# Altium footprint library TE.PcbLib: 11 footprints
Each footprint in its own frame and in the unit in brackets; x right, y up, seen from the top. Pads: shape width x height; smd on the part's side, far side on the other; paste and mask are expansions set on the pad; w line width, h text height; cw(c..) or ccw(c..) is an arc to the next point about the centre after c.
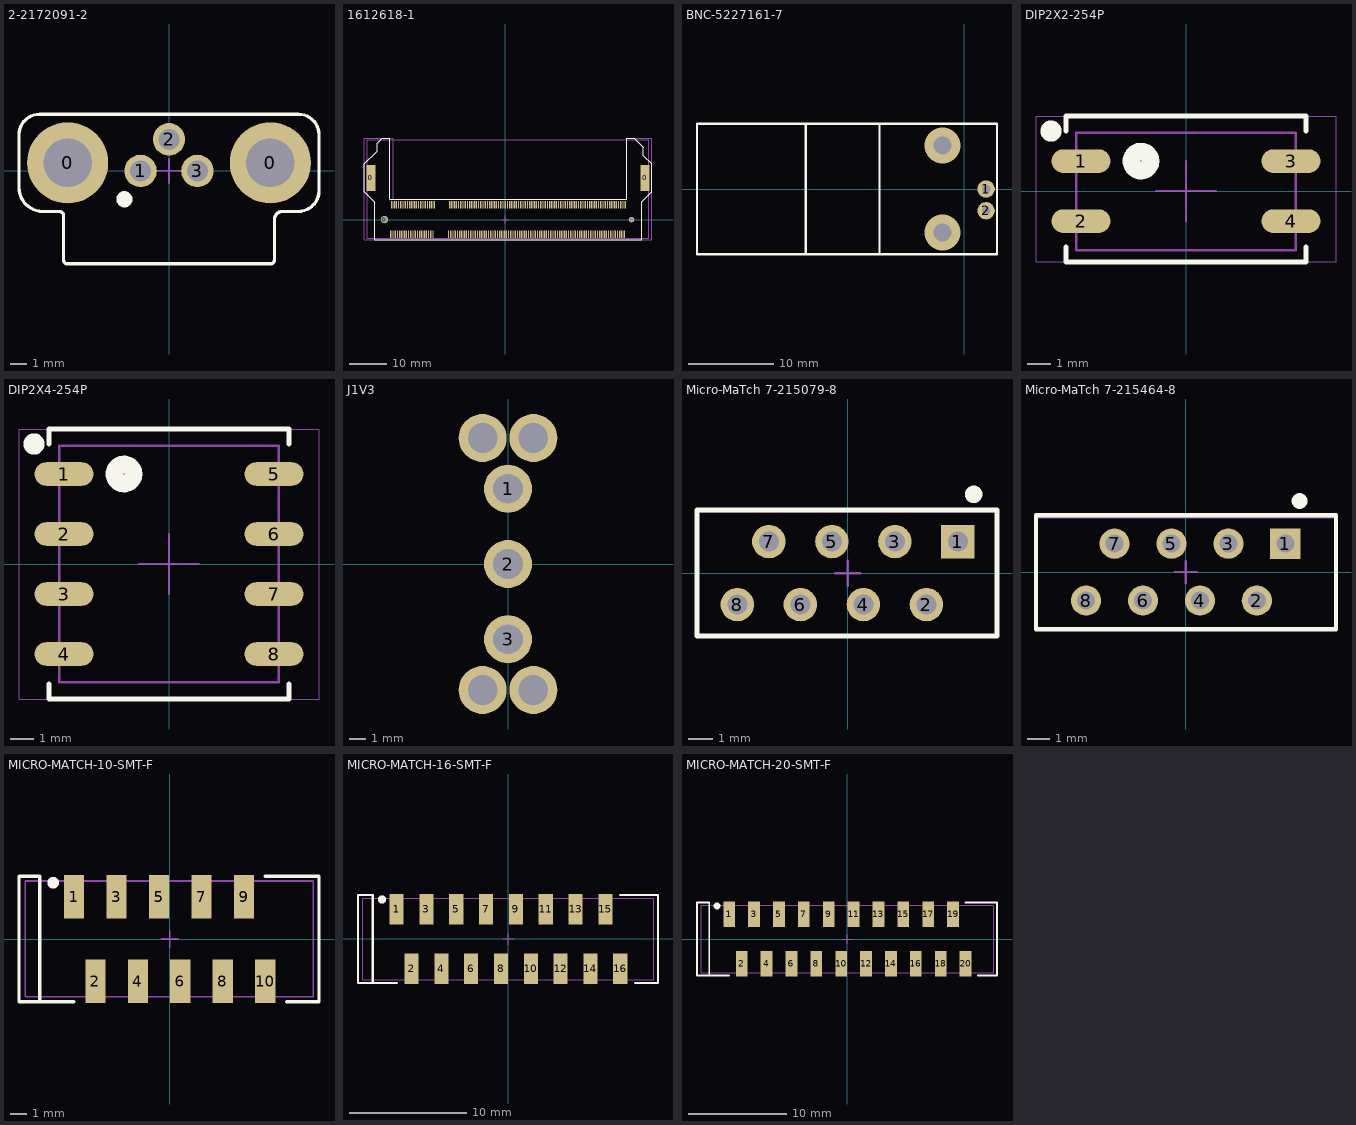
[diagram p0: the footprints below, top view; thin cyan lines are the x and y axes]

## 2-2172091-2 [mm] "M8.FMLE.PNLREAR.3POS.PCBSTAND.RA.SHLD"
pads (5):
  round 5 hole 3: 0(-6.25,0.5) 0(6.25,0.5)
  round 2 hole 1.3: 1(-1.75,0) 2(0,1.95) 3(1.75,0)
Top Overlay:
  circle w0.5: c-2.75,-1.75 r0.25
  lines w0.2: -9.25,-1.02 ccw(c-7.77,-1.02) -7.77,-2.5 -6.75,-2.5 cw(c-6.75,-2.75) -6.5,-2.75 -6.5,-5.5 ccw(c-6.27,-5.5) -6.27,-5.73 6.27,-5.73 ccw(c6.27,-5.5) 6.5,-5.5 6.5,-3 cw(c7,-3) 7,-2.5 7.98,-2.5 ccw(c7.98,-1.23) 9.25,-1.23 9.25,2.23 ccw(c7.98,2.23) 7.98,3.5 0,3.5 -7.98,3.5 ccw(c-7.98,2.23) -9.25,2.23 -9.25,-1.02
Mechanical 15:
  lines w0.1: -0.75,0 0.75,0 ; 0,-0.75 0,0.75
3D body "c-2-2172091-2-a-3d.stp": height 12.7, standoff -2.85, extent -6.377,-17.65 6.377,2.5

## 1612618-1 [mm] "DDR SODIMM SOCKET 200POS"
pads (204):
  rect 2.5x7 smd: 0(-36.25,11.25) 0(37.75,11.25)
  round 2 hole 1.6: 0(-32.6,0)
  round 1.5 hole 1.1: 0(34.1,0)
  rect 0.35x2 smd: 1(-30.9,-4) 2(-30.6,4) 3(-30.3,-4) 4(-30,4) 5(-29.7,-4) 6(-29.4,4) 7(-29.1,-4) 8(-28.8,4) 9(-28.5,-4) 10(-28.2,4) 11(-27.9,-4) 12(-27.6,4) 13(-27.3,-4) 14(-27,4) 15(-26.7,-4) 16(-26.4,4) 17(-26.1,-4) 18(-25.8,4) 19(-25.5,-4) 20(-25.2,4) 21(-24.9,-4) 22(-24.6,4) 23(-24.3,-4) 24(-24,4) 25(-23.7,-4) 26(-23.4,4) 27(-23.1,-4) 28(-22.8,4) 29(-22.5,-4) 30(-22.2,4) 31(-21.9,-4) 32(-21.6,4) 33(-21.3,-4) 34(-21,4) 35(-20.7,-4) 36(-20.4,4) 37(-20.1,-4) 38(-19.8,4) 39(-19.5,-4) 40(-19.2,4) 41(-15.3,-4) 42(-15,4) 43(-14.7,-4) 44(-14.4,4) 45(-14.1,-4) 46(-13.8,4) 47(-13.5,-4) 48(-13.2,4) 49(-12.9,-4) 50(-12.6,4) 51(-12.3,-4) 52(-12,4) 53(-11.7,-4) 54(-11.4,4) 55(-11.1,-4) 56(-10.8,4) 57(-10.5,-4) 58(-10.2,4) 59(-9.9,-4) 60(-9.6,4) 61(-9.3,-4) 62(-9,4) 63(-8.7,-4) 64(-8.4,4) 65(-8.1,-4) 66(-7.8,4) 67(-7.5,-4) 68(-7.2,4) 69(-6.9,-4) 70(-6.6,4) 71(-6.3,-4) 72(-6,4) 73(-5.7,-4) 74(-5.4,4) 75(-5.1,-4) 76(-4.8,4) 77(-4.5,-4) 78(-4.2,4) 79(-3.9,-4) 80(-3.6,4) 81(-3.3,-4) 82(-3,4) 83(-2.7,-4) 84(-2.4,4) 85(-2.1,-4) 86(-1.8,4) 87(-1.5,-4) 88(-1.2,4) 89(-0.9,-4) 90(-0.6,4) 91(-0.3,-4) 92(0,4) 93(0.3,-4) 94(0.6,4) 95(0.9,-4) 96(1.2,4) 97(1.5,-4) 98(1.8,4) 99(2.1,-4) 100(2.4,4) 101(2.7,-4) 102(3,4) 103(3.3,-4) 104(3.6,4) 105(3.9,-4) 106(4.2,4) 107(4.5,-4) 108(4.8,4) 109(5.1,-4) 110(5.4,4) 111(5.7,-4) 112(6,4) 113(6.3,-4) 114(6.6,4) 115(6.9,-4) 116(7.2,4) 117(7.5,-4) 118(7.8,4) 119(8.1,-4) 120(8.4,4) 121(8.7,-4) 122(9,4) 123(9.3,-4) 124(9.6,4) 125(9.9,-4) 126(10.2,4) 127(10.5,-4) 128(10.8,4) 129(11.1,-4) 130(11.4,4) 131(11.7,-4) 132(12,4) 133(12.3,-4) 134(12.6,4) 135(12.9,-4) 136(13.2,4) 137(13.5,-4) 138(13.8,4) 139(14.1,-4) 140(14.4,4) 141(14.7,-4) 142(15,4) 143(15.3,-4) 144(15.6,4) 145(15.9,-4) 146(16.2,4) 147(16.5,-4) 148(16.8,4) 149(17.1,-4) 150(17.4,4) 151(17.7,-4) 152(18,4) 153(18.3,-4) 154(18.6,4) 155(18.9,-4) 156(19.2,4) 157(19.5,-4) 158(19.8,4) 159(20.1,-4) 160(20.4,4) 161(20.7,-4) 162(21,4) 163(21.3,-4) 164(21.6,4) 165(21.9,-4) 166(22.2,4) 167(22.5,-4) 168(22.8,4) 169(23.1,-4) 170(23.4,4) 171(23.7,-4) 172(24,4) 173(24.3,-4) 174(24.6,4) 175(24.9,-4) 176(25.2,4) 177(25.5,-4) 178(25.8,4) 179(26.1,-4) 180(26.4,4) 181(26.7,-4) 182(27,4) 183(27.3,-4) 184(27.6,4) 185(27.9,-4) 186(28.2,4) 187(28.5,-4) 188(28.8,4) 189(29.1,-4) 190(29.4,4) 191(29.7,-4) 192(30,4) 193(30.3,-4) 194(30.6,4) 195(30.9,-4) 196(31.2,4) 197(31.5,-4) 198(31.8,4) 199(32.1,-4) 200(32.4,4)
Top Overlay:
  lines w0.2: -38,7.5 -38,15 -34.575,18.425 -34.575,20.625 -33.2,22 -31.2,22 -31.2,5.5 32.8,5.5 32.8,22 34.8,22 37.3,19.5 37.3,17.2 39.5,15 39.5,12.325 39.5,7.5 36.8,4.8 36.8,-5.5 -35.2,-5.5 -35.2,4.7 -38,7.5
Mechanical 13:
  lines w0.1: -37.2,-5 -37.2,21.556 38.7,21.556 38.7,-5 -37.2,-5
Mechanical 15:
  lines w0.05: -38,-5.5 -38,22 -30.2,22 -30.2,5.5 32.8,5.5 32.8,22 39.5,22 39.5,-5.5 -38,-5.5
  lines w0.1: -1,0 1,0 ; 0,-1 0,1
3D body "c-1612618-1-e2-3d.stp": height 9.43, standoff -0.7, extent -37.2,-5 38.7,21.556

## BNC-5227161-7 [mil]
height 511.81
pads (2):
  round 80 hole 40 unplated: 1(100,0) 2(100,-100)
via -100,200 diameter 166 hole 83
via -100,-200 diameter 166 hole 83
Top Overlay:
  lines w10: -730,-300 -730,300 ; -390,-300 -390,300 ; -1230,-300 150,-300 150,300 -1230,300 -1230,-300
3D body "c-5227161-07-a-3d.stp": height 522, standoff -159, extent -1225,-290.51 150,290.5

## DIP2X2-254P [mm] "Dip Switch, 2x, Pitch 2.54mm"
pads (4):
  oval 2.5x1 smd: 1(-4.445,1.27) 2(-4.445,-1.27) 3(4.445,1.27) 4(4.445,-1.27)
Top Overlay:
  circle w0.5: c-5.715,2.54 r0.2
  circle w0.75: c-1.905,1.27 r0.4
  lines w0.2: -5.08,-2.365 -5.08,-3 5.08,-3 5.08,-2.365 ; -5.08,2.54 -5.08,3.175 5.08,3.175 5.08,2.54
Mechanical 13:
  lines w0.1: -4.65,-2.5 -4.65,2.465 4.65,2.465 4.65,-2.5 -4.65,-2.5
Mechanical 15:
  lines w0.05: -6.35,-3 6.35,-3 6.35,3.175 -6.35,3.175 -6.35,-3
  lines w0.1: -1.27,0 1.27,0 ; 0,-1.27 0,1.27
3D body "c-1825006-3-o-3d.stp": height 2.91, standoff 0, extent -4.65,-2.465 4.65,2.465

## DIP2X4-254P [mm] "Dip Switch, 4x, Pitch 2.54mm"
pads (8):
  oval 2.5x1 smd: 1(-4.445,3.81) 2(-4.445,1.27) 3(-4.445,-1.27) 4(-4.445,-3.81) 5(4.445,3.81) 6(4.445,1.27) 7(4.445,-1.27) 8(4.445,-3.81)
Top Overlay:
  circle w0.75: c-1.905,3.81 r0.4
  circle w0.5: c-5.715,5.08 r0.2
  lines w0.2: -5.08,-5.08 -5.08,-5.715 5.08,-5.715 5.08,-5.08 ; -5.08,5.08 -5.08,5.715 5.08,5.715 5.08,5.08
Mechanical 13:
  lines w0.1: -4.65,-5.005 4.65,-5.005 4.65,5.005 -4.65,5.005 -4.65,-5.005
Mechanical 15:
  lines w0.05: -6.35,-5.715 -6.35,5.715 6.35,5.715 6.35,-5.715 -6.35,-5.715
  lines w0.1: -1.27,0 1.27,0 ; 0,-1.27 0,1.27
3D body "c-1825006-7-o-3d.stp": height 2.91, standoff 0, extent -4.65,-5.005 4.65,5.005

## J1V3 [mm] "Rock Switch, THT, 3 Pins, 2 Positions"
height 24
pads (7):
  round 3 hole 1.85: 1(0,4.7) 2(0,0) 3(0,-4.7) ""(-1.59,-7.875) ""(-1.59,7.875) ""(1.59,-7.875) ""(1.59,7.875)
3D body "c-1-1571988-0-a-3d.stp": height 25.15, standoff -4.66, extent -4.625,-8.22 4.645,8.17

## Micro-MaTch 7-215079-8 [mm] "Connector, THT, 8 Pins, Female"
height 3.6
pads (8):
  rect 1.35x1.35 hole 0.8: 1(4.445,1.27)
  round 1.35 hole 0.8: 2(3.175,-1.27) 3(1.905,1.27) 4(0.635,-1.27) 5(-0.635,1.27) 6(-1.905,-1.27) 7(-3.175,1.27) 8(-4.445,-1.27)
Top Overlay:
  circle w0.5: c5.08,3.175 r0.1
  lines w0.2: -6.07,-2.54 6.02,-2.54 6.02,2.54 -6.07,2.54 -6.07,-2.54
Mechanical 13:
  lines w0.1: -6.07,2.5 -6.07,-2.5 6.02,-2.5 6.02,2.5 ; -6.07,2.5 6.02,2.5 ; -6.07,2.5 6.02,2.5 ; 6.02,2.5 6.02,2.5
Mechanical 15:
  lines w0.1: -0.5,0 0.5,0 ; 0,-0.5 0,0.5
3D body "c-0215079-78-v-3d.stp": height 4, standoff -3, extent -6.07,-2.5 6.02,2.5

## Micro-MaTch 7-215464-8 [mm] "Connector, THT, 8 Pins, Male"
height 3.6
pads (8):
  rect 1.35x1.35 hole 0.8: 1(4.445,1.27)
  round 1.35 hole 0.8: 2(3.175,-1.27) 3(1.905,1.27) 4(0.635,-1.27) 5(-0.635,1.27) 6(-1.905,-1.27) 7(-3.175,1.27) 8(-4.445,-1.27)
Top Overlay:
  circle w0.5: c5.08,3.175 r0.1
  lines w0.2: -6.68,-2.54 -6.68,2.54 6.706,2.54 6.706,-2.54 -6.68,-2.54
Mechanical 13:
  lines w0.1: -6.67,-2.551 -6.67,2.449 6.67,2.449 6.67,-2.551 -6.67,-2.551
Mechanical 15:
  lines w0.1: -0.5,0 0.5,0 ; 0,-0.5 0,0.5
3D body "c-7-215464-8-b-3d.stp": height 6.9, standoff -3.1, extent -6.67,-2.551 6.67,2.449

## MICRO-MATCH-10-SMT-F [mm]
height 5.3
pads (10):
  rect 1.2x2.6 smd: 1(-5.715,2.54) 2(-4.445,-2.54) 3(-3.175,2.54) 4(-1.905,-2.54) 5(-0.635,2.54) 6(0.635,-2.54) 7(1.905,2.54) 8(3.175,-2.54) 9(4.445,2.54) 10(5.715,-2.54)
Top Overlay:
  circle w0.5: c-6.965,3.365 r0.1
  lines w0.2: -7.758,-3.75 -7.758,3.75 -9.008,3.75 -9.008,-3.75 -5.715,-3.75 ; 5.715,3.75 8.928,3.75 8.928,-3.75 6.985,-3.75
Mechanical 13:
  lines w0.1: -8.636,-3.45 -8.636,3.465 8.581,3.465 8.581,-3.45 -8.636,-3.45
Mechanical 15:
  lines w0.1: -0.504,0 0.496,0 0.496,0.006 ; -0.004,-0.5 -0.004,0.5
3D body "c-8-338069-0-k-3d.stp": height 5.25, standoff -0.04, extent -8.589,-3.465 8.581,3.454

## MICRO-MATCH-16-SMT-F [mm]
height 5.3
pads (16):
  rect 1.2x2.6 smd: 1(-9.525,2.54) 2(-8.255,-2.54) 3(-6.985,2.54) 4(-5.715,-2.54) 5(-4.445,2.54) 6(-3.175,-2.54) 7(-1.905,2.54) 8(-0.635,-2.54) 9(0.635,2.54) 10(1.905,-2.54) 11(3.175,2.54) 12(4.445,-2.54) 13(5.715,2.54) 14(6.985,-2.54) 15(8.255,2.54) 16(9.525,-2.54)
Top Overlay:
  circle w0.5: c-10.775,3.365 r0.1
  lines w0.2: -11.568,-3.75 -11.568,3.75 -12.818,3.75 -12.818,-3.75 -9.525,-3.75 ; 9.525,3.75 12.738,3.75 12.738,-3.75 10.795,-3.75
Mechanical 13:
  lines w0.1: -12.395,-3.454 12.395,-3.454 12.395,3.465 -12.395,3.465 -12.395,-3.454
Mechanical 15:
  lines w0.1: -0.5,0 0.5,0 ; 0,-0.5 0,0 0,0.5
3D body "c-0338069-86-g-3d.stp": height 5.35, standoff 0.01, extent -12.395,-3.465 12.395,3.454

## MICRO-MATCH-20-SMT-F [mm]
height 5.3
pads (20):
  rect 1.2x2.6 smd: 1(-12.065,2.54) 2(-10.795,-2.54) 3(-9.525,2.54) 4(-8.255,-2.54) 5(-6.985,2.54) 6(-5.715,-2.54) 7(-4.445,2.54) 8(-3.175,-2.54) 9(-1.905,2.54) 10(-0.635,-2.54) 11(0.635,2.54) 12(1.905,-2.54) 13(3.175,2.54) 14(4.445,-2.54) 15(5.715,2.54) 16(6.985,-2.54) 17(8.255,2.54) 18(9.525,-2.54) 19(10.795,2.54) 20(12.065,-2.54)
Top Overlay:
  circle w0.5: c-13.315,3.365 r0.1
  lines w0.2: -14.108,-3.75 -14.108,3.75 -15.358,3.75 -15.358,-3.75 -12.065,-3.75 ; 12.065,3.75 15.278,3.75 15.278,-3.75 13.335,-3.75
Mechanical 13:
  lines w0.1: -14.935,-3.454 14.935,-3.454 14.935,3.465 -14.935,3.465 -14.935,-3.454
Mechanical 15:
  lines w0.1: -0.5,0 0.5,0 ; 0,-0.5 0,0.5
3D body "c-0338069-90-g-3d.stp": height 5.35, standoff 0.01, extent -14.935,-3.465 14.935,3.454